# Altium schematic symbol library IntegratedCircuits.SchLib: 1 symbol
Pins are listed as number, name and electrical type; pins without a type are passive.

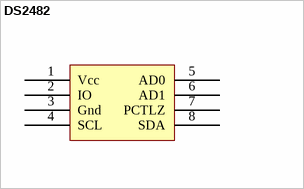
[diagram p0: symbol DS2482]

## DS2482
designator U?, comment DS2482-100
I2C to 1-Wire Bridge; ComponentLink1Description: Manufacturer Link; ComponentLink2Description: Datasheet
footprint DS2482-100
footprint DS2482-100
pins: 1 Vcc (power), 2 IO, 3 Gnd (power), 4 SCL, 5 AD0, 6 AD1, 7 PCTLZ, 8 SDA